# EAGLE library part AS7C34098A-12TIN (library EagleParts)
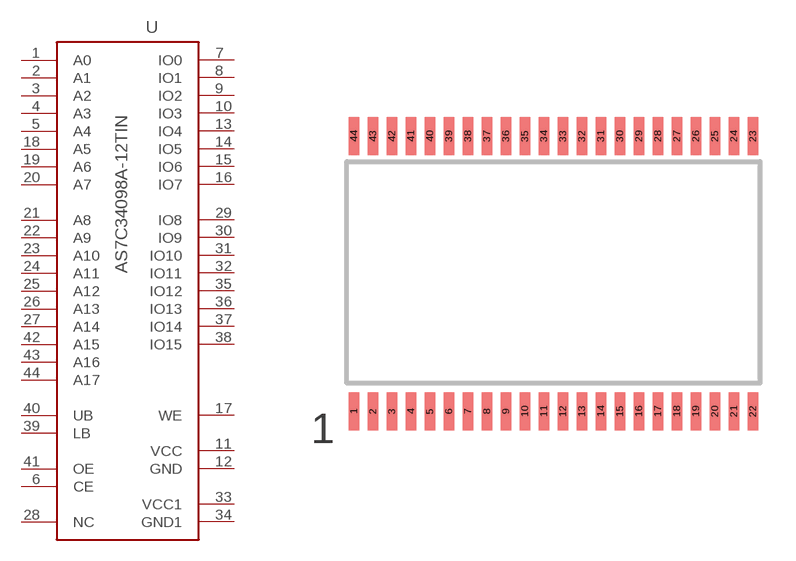
[diagram p0: symbol with the pads of TSOPII-44; footprint TSOPII-44]

Designator prefix -

## AS7C34098A-12TIN  [TSOPII-44]
1  A0  in
2  A1  in
3  A2  in
4  A3  in
5  A4  in
6  CE  in
7  IO0  in
8  IO1  in
9  IO2  in
10  IO3  in
11  VCC  in
12  GND  in
13  IO4  in
14  IO5  in
15  IO6  in
16  IO7  in
17  WE  in
18  A5  in
19  A6  in
20  A7  in
21  A8  in
22  A9  in
23  A10  in
24  A11  in
25  A12  in
26  A13  in
27  A14  in
28  NC  in
29  IO8  in
30  IO9  in
31  IO10  in
32  IO11  in
33  VCC1  in
34  GND1  in
35  IO12  in
36  IO13  in
37  IO14  in
38  IO15  in
39  LB  in
40  UB  in
41  OE  in
42  A15  in
43  A16  in
44  A17  in

## Footprint TSOPII-44 (pad centres in mm)
smd 0.45 x 1.6: 1 -7.13,-5.8; 2 -6.33,-5.8; 3 -5.53,-5.8; 4 -4.73,-5.8; 5 -3.93,-5.8; 6 -3.13,-5.8; 7 -2.33,-5.8; 8 -1.53,-5.8; 9 -0.73,-5.8; 10 0.07,-5.8; 11 0.87,-5.8; 12 1.67,-5.8; 13 2.47,-5.8; 14 3.27,-5.8; 15 4.07,-5.8; 16 4.87,-5.8; 17 5.67,-5.8; 18 6.47,-5.8; 19 7.27,-5.8; 20 8.07,-5.8; 21 8.87,-5.8; 22 9.67,-5.8; 23 9.67,5.8; 24 8.87,5.8; 25 8.07,5.8; 26 7.27,5.8; 27 6.47,5.8; 28 5.67,5.8; 29 4.87,5.8; 30 4.07,5.8; 31 3.27,5.8; 32 2.47,5.8; 33 1.67,5.8; 34 0.87,5.8; 35 0.07,5.8; 36 -0.73,5.8; 37 -1.53,5.8; 38 -2.33,5.8; 39 -3.13,5.8; 40 -3.93,5.8; 41 -4.73,5.8; 42 -5.53,5.8; 43 -6.33,5.8; 44 -7.13,5.8